# EAGLE library part AT90S2313 (library atmel_prototype_header)
8-bit AVR Microcontroller with 2K bytes In-System Programmable Flash
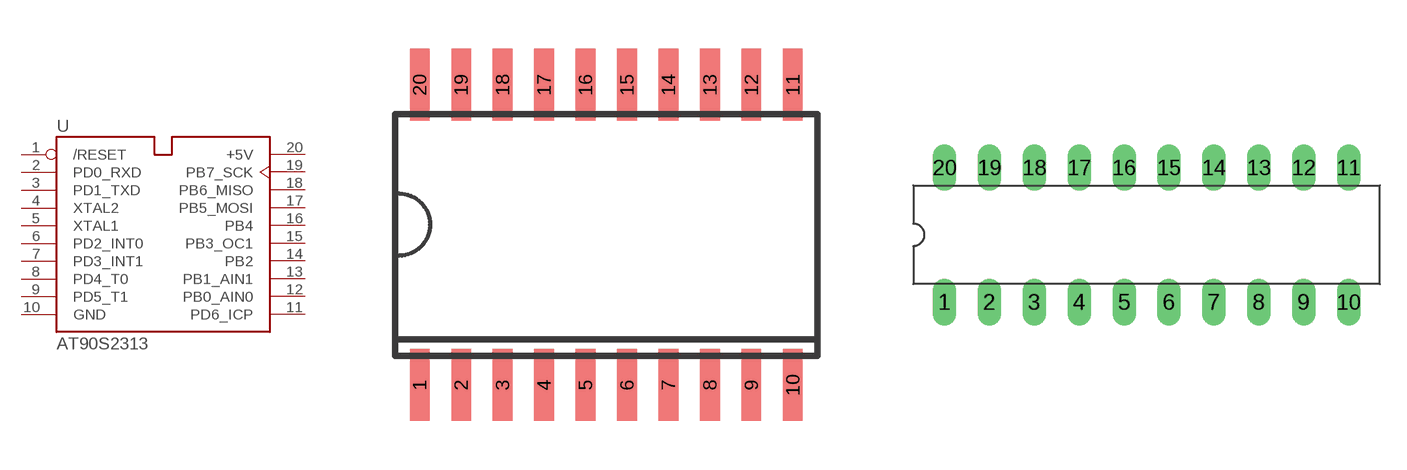
[diagram p7: symbol with the pads of SO-20; footprints SO-20, DIP20]

Designator prefix U

## AT90S2313_SO-20  [SO-20]
1  /RESET  in
2  PD0_RXD  in
3  PD1_TXD  out
4  XTAL2
5  XTAL1
6  PD2_INT0
7  PD3_INT1
8  PD4_T0
9  PD5_T1
10  GND  pwr
11  PD6_ICP
12  PB0_AIN0
13  PB1_AIN1
14  PB2
15  PB3_OC1
16  PB4
17  PB5_MOSI
18  PB6_MISO
19  PB7_SCK
20  +5V  pwr

## AT90S2313_DIP20  [DIP20]
Pads as for SO-20

## Footprint SO-20 (pad centres in mm)
smd 0.6 x 2.2: 1 -5.715,-4.6; 2 -4.445,-4.6; 3 -3.175,-4.6; 4 -1.905,-4.6; 5 -0.635,-4.6; 6 0.635,-4.6; 7 1.905,-4.6; 8 3.175,-4.6; 9 4.445,-4.6; 10 5.715,-4.6; 11 5.715,4.6; 12 4.445,4.6; 13 3.175,4.6; 14 1.905,4.6; 15 0.635,4.6; 16 -0.635,4.6; 17 -1.905,4.6; 18 -3.175,4.6; 19 -4.445,4.6; 20 -5.715,4.6

## Footprint DIP20 (pad centres in mm)
drill 0.813 long: 1 -11.43,-3.81; 2 -8.89,-3.81; 3 -6.35,-3.81; 4 -3.81,-3.81; 5 -1.27,-3.81; 6 1.27,-3.81; 7 3.81,-3.81; 8 6.35,-3.81; 9 8.89,-3.81; 10 11.43,-3.81; 11 11.43,3.81; 12 8.89,3.81; 13 6.35,3.81; 14 3.81,3.81; 15 1.27,3.81; 16 -1.27,3.81; 17 -3.81,3.81; 18 -6.35,3.81; 19 -8.89,3.81; 20 -11.43,3.81